# Altium integrated library TAJB107K006RNJ.IntLib: 1 symbol
Pins are listed as number, name and electrical type; pins without a type are passive.

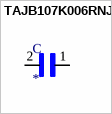
[diagram p0: symbol TAJB107K006RNJ]

## TAJB107K006RNJ
designator C
100ÂµF Molded Tantalum Capacitors 6.3V 1411 _3528 Metric_, 1210 1.7Ohm; MF: AVX; MP: TAJB107K006RNJ; Value: *; Availability: Unavailable; Package: 1210 AVX; SnapEDA_Link: https://www.snapeda.com/parts/TAJB107K006RNJ/AVX/view-part/381691/?ref=snap; Price: None
footprint CAPPC3528X210N
pins: 1, 2